# Altium footprint library WS2812B.PcbLib: 1 footprints
Each footprint in its own frame and in the unit in brackets; x right, y up, seen from the top. Pads: shape width x height; smd on the part's side, far side on the other; paste and mask are expansions set on the pad; w line width, h text height; cw(c..) or ccw(c..) is an arc to the next point about the centre after c.
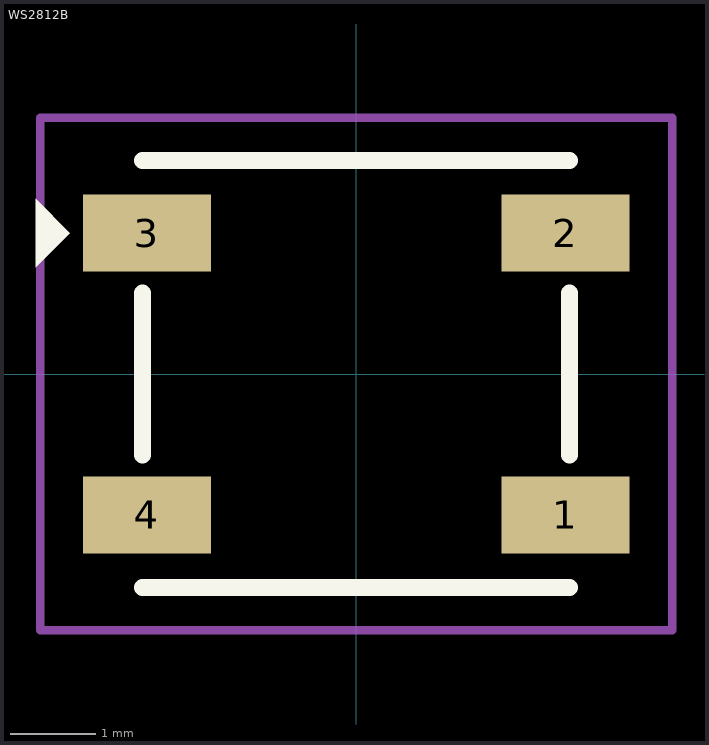
[diagram p0: the footprint, top view; thin cyan lines are the x and y axes]

## WS2812B [mm]
pads (4):
  rect 1.5x0.9 smd: 1(2.45,-1.65) 2(2.45,1.65) 3(-2.45,1.65) 4(-2.45,-1.65)
Top Overlay:
  region: -3.75,1.25 -3.75,2.05 -3.35,1.65
  lines w0.2: -2.5,-2.5 2.5,-2.5 ; -2.5,-0.95 -2.5,0.95 ; -2.5,2.5 2.5,2.5 ; 2.5,-0.95 2.5,0.95
Top Courtyard:
  lines w0.1: -3.7,-3 -3.7,3 3.7,3 3.7,-3 -2.475,-3 -3.7,-3
3D body "WS2812B--3DModel-STEP-510211.STEP": height 1.62, standoff 0, extent -2.7,-2.5 2.7,2.5